# EAGLE library part UC_ATSAMD21E18A (library fab)
The SAM D21 is a series of low-power microcontrollers using the 32-bit ARM® Cortex® -M0+ processor, and ranging from 32- to 64-pins with up to 256KB Flash and 32KB of SRAM. The SAM D21 operate at a maximum frequency of 48MHz and reach 2.46 CoreMark® /MHz. Check prices <https://pricing.snapeda.com/parts/ATSAMD21E18A-AF/Microchip/view-part?ref=eda>
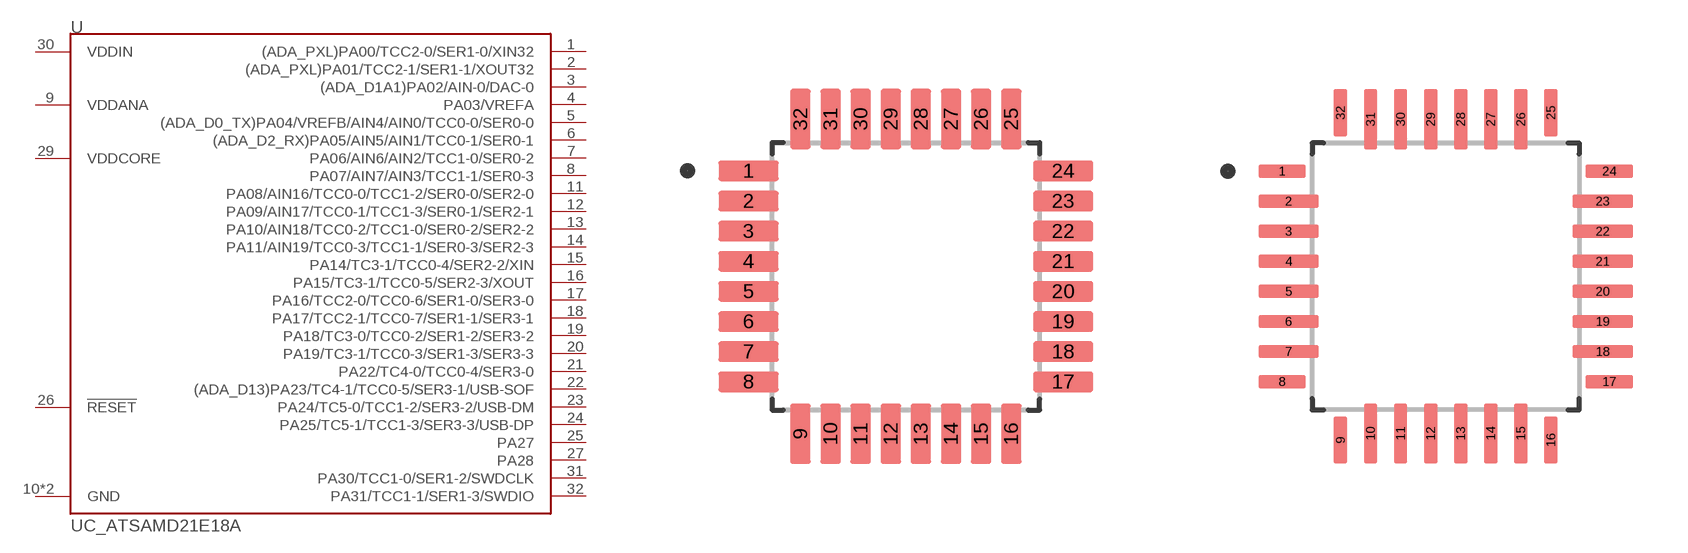
[diagram p27: symbol with the pads of TQFP-32; footprints TQFP-32, TQFP-32-FAB]

Designator prefix U

## UC_ATSAMD21E18A (AVAILABILITY: Warning; DESCRIPTION: ARM® Cortex®-M0+ Automotive, AEC-Q100, SAM D21E, Functional Safety (FuSa) Microcontroller IC 32-Bit 48MHz 256KB (256K x 8) FLASH 32-TQFP (7x7); MF: Microchip; MP: ATSAMD21E18A-AF; PACKAGE: TQFP-32 Microchip; PRICE: None; PURCHASE-URL: https://pricing.snapeda.com/search/part/ATSAMD21E18A-AF/?ref=eda)  [TQFP-32]
1  (ADA_PXL)PA00/TCC2-0/SER1-0/XIN32
2  (ADA_PXL)PA01/TCC2-1/SER1-1/XOUT32
3  (ADA_D1A1)PA02/AIN-0/DAC-0
4  PA03/VREFA
5  (ADA_D0_TX)PA04/VREFB/AIN4/AIN0/TCC0-0/SER0-0
6  (ADA_D2_RX)PA05/AIN5/AIN1/TCC0-1/SER0-1
7  PA06/AIN6/AIN2/TCC1-0/SER0-2
8  PA07/AIN7/AIN3/TCC1-1/SER0-3
9  VDDANA  pwr
10  GND  pwr
11  PA08/AIN16/TCC0-0/TCC1-2/SER0-0/SER2-0
12  PA09/AIN17/TCC0-1/TCC1-3/SER0-1/SER2-1
13  PA10/AIN18/TCC0-2/TCC1-0/SER0-2/SER2-2
14  PA11/AIN19/TCC0-3/TCC1-1/SER0-3/SER2-3
15  PA14/TC3-1/TCC0-4/SER2-2/XIN
16  PA15/TC3-1/TCC0-5/SER2-3/XOUT
17  PA16/TCC2-0/TCC0-6/SER1-0/SER3-0
18  PA17/TCC2-1/TCC0-7/SER1-1/SER3-1
19  PA18/TC3-0/TCC0-2/SER1-2/SER3-2
20  PA19/TC3-1/TCC0-3/SER1-3/SER3-3
21  PA22/TC4-0/TCC0-4/SER3-0
22  (ADA_D13)PA23/TC4-1/TCC0-5/SER3-1/USB-SOF
23  PA24/TC5-0/TCC1-2/SER3-2/USB-DM
24  PA25/TC5-1/TCC1-3/SER3-3/USB-DP
25  PA27
26  !RESET  in
27  PA28
28  GND  pwr
29  VDDCORE  pwr
30  VDDIN  pwr
31  PA30/TCC1-0/SER1-2/SWDCLK
32  PA31/TCC1-1/SER1-3/SWDIO

## UC_ATSAMD21E18AFAB  [TQFP-32-FAB]
Pads as for TQFP-32

## Footprint TQFP-32 (pad centres in mm)
smd 1.6 x 0.55: 1 -4.18,2.8; 2 -4.18,2; 3 -4.18,1.2; 4 -4.18,0.4; 5 -4.18,-0.4; 6 -4.18,-1.2; 7 -4.18,-2; 8 -4.18,-2.8; 17 4.18,-2.8; 18 4.18,-2; 19 4.18,-1.2; 20 4.18,-0.4; 21 4.18,0.4; 22 4.18,1.2; 23 4.18,2; 24 4.18,2.8
smd 0.55 x 1.6: 9 -2.8,-4.18; 10 -2,-4.18; 11 -1.2,-4.18; 12 -0.4,-4.18; 13 0.4,-4.18; 14 1.2,-4.18; 15 2,-4.18; 16 2.8,-4.18; 25 2.8,4.18; 26 2,4.18; 27 1.2,4.18; 28 0.4,4.18; 29 -0.4,4.18; 30 -1.2,4.18; 31 -2,4.18; 32 -2.8,4.18

## Footprint TQFP-32-FAB (pad centres in mm)
smd 1.25 x 0.35: 1 -4.355,2.8; 8 -4.355,-2.8; 17 4.355,-2.8; 24 4.355,2.8
smd 1.6 x 0.35: 2 -4.18,2; 3 -4.18,1.2; 4 -4.18,0.4; 5 -4.18,-0.4; 6 -4.18,-1.2; 7 -4.18,-2; 18 4.18,-2; 19 4.18,-1.2; 20 4.18,-0.4; 21 4.18,0.4; 22 4.18,1.2; 23 4.18,2
smd 0.35 x 1.25: 9 -2.8,-4.355; 16 2.8,-4.355; 25 2.8,4.355; 32 -2.8,4.355
smd 0.35 x 1.6: 10 -2,-4.18; 11 -1.2,-4.18; 12 -0.4,-4.18; 13 0.4,-4.18; 14 1.2,-4.18; 15 2,-4.18; 26 2,4.18; 27 1.2,4.18; 28 0.4,4.18; 29 -0.4,4.18; 30 -1.2,4.18; 31 -2,4.18